# Altium schematic symbol library WE-GFH_2520.SchLib: 10 symbols
Pins are listed as number, name and electrical type; pins without a type are passive.

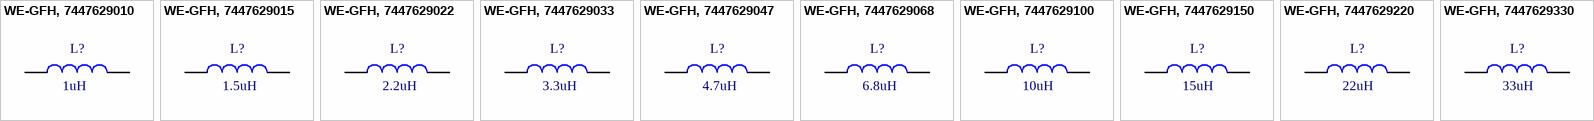
[diagram p0: symbols WE-GFH, 7447629010 to WE-GFH, 7447629330]

## WE-GFH, 7447629010
designator L?  value 1uH
WE-GFH High Frequency SMD Inductor, size 2520, 1uH; PartNumber: 7447629010; PublishedDate: Sep. 2016; Publisher: Wurth Elektronik; ComponentLink1Description: Manufacturer; ComponentLink1URL: http://www.we-online.de; ComponentLink2Description: Datasheet; ComponentLink2URL: http://katalog.we-online.de/pbs/datasheet/7447629010.pdf; Size: 2520
footprint WE-GFH_2520
pins: 1, 2

## WE-GFH, 7447629015
designator L?  value 1.5uH
WE-GFH High Frequency SMD Inductor, size 2520, 1.5uH; PartNumber: 7447629015; PublishedDate: Sep. 2016; Publisher: Wurth Elektronik; ComponentLink1Description: Manufacturer; ComponentLink1URL: http://www.we-online.de; ComponentLink2Description: Datasheet; ComponentLink2URL: http://katalog.we-online.de/pbs/datasheet/7447629015.pdf; Size: 2520
footprint WE-GFH_2520
pins: 1, 2

## WE-GFH, 7447629022
designator L?  value 2.2uH
WE-GFH High Frequency SMD Inductor, size 2520, 2.2uH; PartNumber: 7447629022; PublishedDate: Sep. 2016; Publisher: Wurth Elektronik; ComponentLink1Description: Manufacturer; ComponentLink1URL: http://www.we-online.de; ComponentLink2Description: Datasheet; ComponentLink2URL: http://katalog.we-online.de/pbs/datasheet/7447629022.pdf; Size: 2520
footprint WE-GFH_2520
pins: 1, 2

## WE-GFH, 7447629033
designator L?  value 3.3uH
WE-GFH High Frequency SMD Inductor, size 2520, 3.3uH; PartNumber: 7447629033; PublishedDate: Sep. 2016; Publisher: Wurth Elektronik; ComponentLink1Description: Manufacturer; ComponentLink1URL: http://www.we-online.de; ComponentLink2Description: Datasheet; ComponentLink2URL: http://katalog.we-online.de/pbs/datasheet/7447629033.pdf; Size: 2520
footprint WE-GFH_2520
pins: 1, 2

## WE-GFH, 7447629047
designator L?  value 4.7uH
WE-GFH High Frequency SMD Inductor, size 2520, 4.7uH; PartNumber: 7447629047; PublishedDate: Sep. 2016; Publisher: Wurth Elektronik; ComponentLink1Description: Manufacturer; ComponentLink1URL: http://www.we-online.de; ComponentLink2Description: Datasheet; ComponentLink2URL: http://katalog.we-online.de/pbs/datasheet/7447629047.pdf; Size: 2520
footprint WE-GFH_2520
pins: 1, 2

## WE-GFH, 7447629068
designator L?  value 6.8uH
WE-GFH High Frequency SMD Inductor, size 2520, 6.8uH; PartNumber: 7447629068; PublishedDate: Sep. 2016; Publisher: Wurth Elektronik; ComponentLink1Description: Manufacturer; ComponentLink1URL: http://www.we-online.de; ComponentLink2Description: Datasheet; ComponentLink2URL: http://katalog.we-online.de/pbs/datasheet/7447629068.pdf; Size: 2520
footprint WE-GFH_2520
pins: 1, 2

## WE-GFH, 7447629100
designator L?  value 10uH
WE-GFH High Frequency SMD Inductor, size 2520, 10uH; PartNumber: 7447629100; PublishedDate: Sep. 2016; Publisher: Wurth Elektronik; ComponentLink1Description: Manufacturer; ComponentLink1URL: http://www.we-online.de; ComponentLink2Description: Datasheet; ComponentLink2URL: http://katalog.we-online.de/pbs/datasheet/7447629100.pdf; Size: 2520
footprint WE-GFH_2520
pins: 1, 2

## WE-GFH, 7447629150
designator L?  value 15uH
WE-GFH High Frequency SMD Inductor, size 2520, 15uH; PartNumber: 7447629150; PublishedDate: Sep. 2016; Publisher: Wurth Elektronik; ComponentLink1Description: Manufacturer; ComponentLink1URL: http://www.we-online.de; ComponentLink2Description: Datasheet; ComponentLink2URL: http://katalog.we-online.de/pbs/datasheet/7447629150.pdf; Size: 2520
footprint WE-GFH_2520
pins: 1, 2

## WE-GFH, 7447629220
designator L?  value 22uH
WE-GFH High Frequency SMD Inductor, size 2520, 22uH; PartNumber: 7447629220; PublishedDate: Sep. 2016; Publisher: Wurth Elektronik; ComponentLink1Description: Manufacturer; ComponentLink1URL: http://www.we-online.de; ComponentLink2Description: Datasheet; ComponentLink2URL: http://katalog.we-online.de/pbs/datasheet/7447629220.pdf; Size: 2520
footprint WE-GFH_2520
pins: 1, 2

## WE-GFH, 7447629330
designator L?  value 33uH
WE-GFH High Frequency SMD Inductor, size 2520, 33uH; PartNumber: 7447629330; PublishedDate: Sep. 2016; Publisher: Wurth Elektronik; ComponentLink1Description: Manufacturer; ComponentLink1URL: http://www.we-online.de; ComponentLink2Description: Datasheet; ComponentLink2URL: http://katalog.we-online.de/pbs/datasheet/7447629330.pdf; Size: 2520
footprint WE-GFH_2520
pins: 1, 2